# Altium footprint library Connector_PCBEdge.PcbLib: 101 footprints (part 5 of 7)
Each footprint in its own frame and in the unit in brackets; x right, y up, seen from the top. Pads: shape width x height; smd on the part's side, far side on the other; paste and mask are expansions set on the pad; w line width, h text height; cw(c..) or ccw(c..) is an arc to the next point about the centre after c.
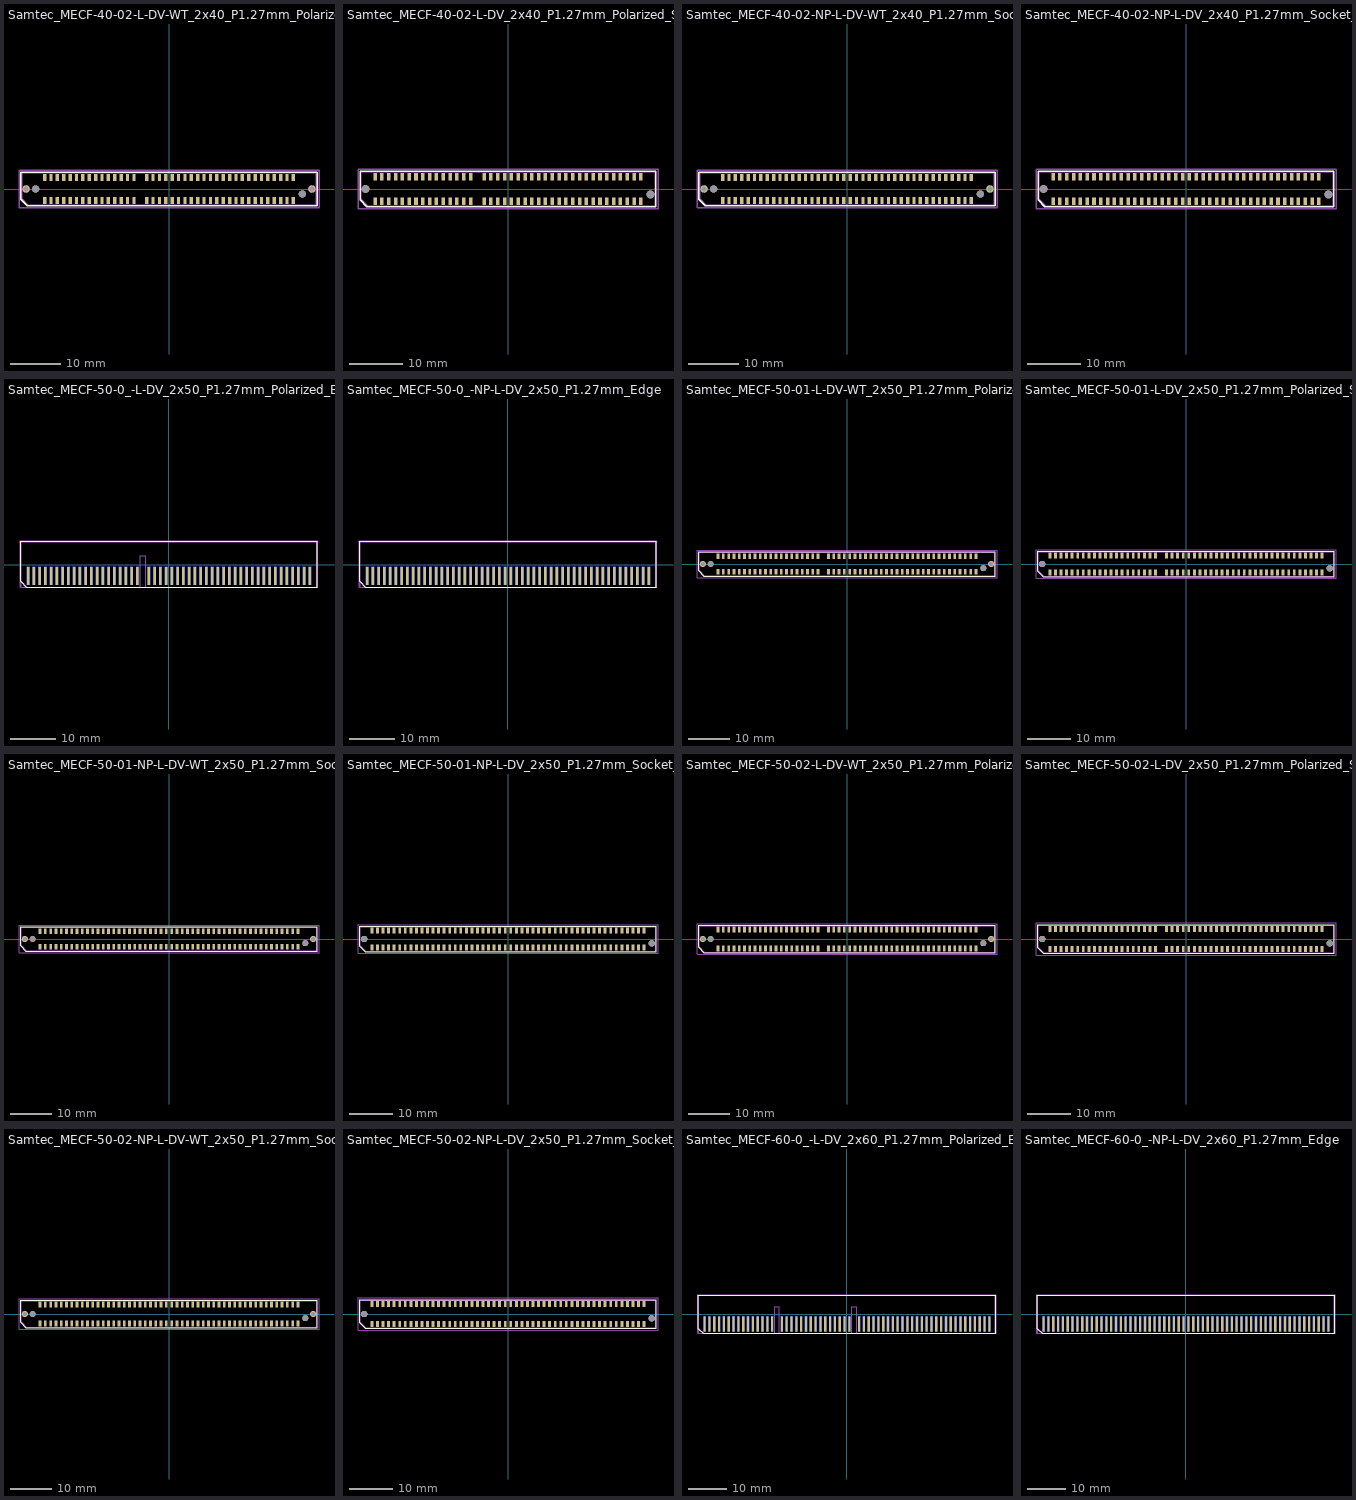
[diagram p4: the footprints below, top view; thin cyan lines are the x and y axes]

## Samtec_MECF-40-02-L-DV-WT_2x40_P1.27mm_Polarized_Socket_Horizontal [mm]
pads (82):
  rect 0.66x1.35 smd: 1(-24.765,-2.3) 2(-24.765,2.3) 3(-23.495,-2.3) 4(-23.495,2.3) 5(-22.225,-2.3) 6(-22.225,2.3) 7(-20.955,-2.3) 8(-20.955,2.3) 9(-19.685,-2.3) 10(-19.685,2.3) 11(-18.415,-2.3) 12(-18.415,2.3) 13(-17.145,-2.3) 14(-17.145,2.3) 15(-15.875,-2.3) 16(-15.875,2.3) 17(-14.605,-2.3) 18(-14.605,2.3) 19(-13.335,-2.3) 20(-13.335,2.3) 21(-12.065,-2.3) 22(-12.065,2.3) 23(-10.795,-2.3) 24(-10.795,2.3) 25(-9.525,-2.3) 26(-9.525,2.3) 27(-8.255,-2.3) 28(-8.255,2.3) 29(-6.985,-2.3) 30(-6.985,2.3) 33(-4.445,-2.3) 34(-4.445,2.3) 35(-3.175,-2.3) 36(-3.175,2.3) 37(-1.905,-2.3) 38(-1.905,2.3) 39(-0.635,-2.3) 40(-0.635,2.3) 41(0.635,-2.3) 42(0.635,2.3) 43(1.905,-2.3) 44(1.905,2.3) 45(3.175,-2.3) 46(3.175,2.3) 47(4.445,-2.3) 48(4.445,2.3) 49(5.715,-2.3) 50(5.715,2.3) 51(6.985,-2.3) 52(6.985,2.3) 53(8.255,-2.3) 54(8.255,2.3) 55(9.525,-2.3) 56(9.525,2.3) 57(10.795,-2.3) 58(10.795,2.3) 59(12.065,-2.3) 60(12.065,2.3) 61(13.335,-2.3) 62(13.335,2.3) 63(14.605,-2.3) 64(14.605,2.3) 65(15.875,-2.3) 66(15.875,2.3) 67(17.145,-2.3) 68(17.145,2.3) 69(18.415,-2.3) 70(18.415,2.3) 71(19.685,-2.3) 72(19.685,2.3) 73(20.955,-2.3) 74(20.955,2.3) 75(22.225,-2.3) 76(22.225,2.3) 77(23.495,-2.3) 78(23.495,2.3) 79(24.765,-2.3) 80(24.765,2.3)
  round 1.5 hole 1: Un1(-28.45,0) Un4(28.45,0)
  round 1.45 hole 1.45: Un2(-26.545,0) Un3(26.545,-1)
F.SilkS:
  lines w0.254: -29.47,-2.04 -28.2,-3.31 29.47,-3.31 29.47,3.31 -29.47,3.31 -29.47,-2.04
Top Assembly:
  lines w0.254: -29.36,-1.93 -28.09,-3.2 29.36,-3.2 29.36,3.2 -29.36,3.2 -29.36,-1.93
  text "'.Designator'" at -4.047,-0.84 h1
Top Courtyard:
  lines w0.254: -29.86,-3.7 29.86,-3.7 29.86,3.7 -29.86,3.7 -29.86,-3.7
Top Designator:
  text ".Designator" at -7.618,-0.508 h1.52

## Samtec_MECF-40-02-L-DV_2x40_P1.27mm_Polarized_Socket_Horizontal [mm]
pads (80):
  rect 0.66x1.35 smd: 1(-24.765,-2.3) 2(-24.765,2.3) 3(-23.495,-2.3) 4(-23.495,2.3) 5(-22.225,-2.3) 6(-22.225,2.3) 7(-20.955,-2.3) 8(-20.955,2.3) 9(-19.685,-2.3) 10(-19.685,2.3) 11(-18.415,-2.3) 12(-18.415,2.3) 13(-17.145,-2.3) 14(-17.145,2.3) 15(-15.875,-2.3) 16(-15.875,2.3) 17(-14.605,-2.3) 18(-14.605,2.3) 19(-13.335,-2.3) 20(-13.335,2.3) 21(-12.065,-2.3) 22(-12.065,2.3) 23(-10.795,-2.3) 24(-10.795,2.3) 25(-9.525,-2.3) 26(-9.525,2.3) 27(-8.255,-2.3) 28(-8.255,2.3) 29(-6.985,-2.3) 30(-6.985,2.3) 33(-4.445,-2.3) 34(-4.445,2.3) 35(-3.175,-2.3) 36(-3.175,2.3) 37(-1.905,-2.3) 38(-1.905,2.3) 39(-0.635,-2.3) 40(-0.635,2.3) 41(0.635,-2.3) 42(0.635,2.3) 43(1.905,-2.3) 44(1.905,2.3) 45(3.175,-2.3) 46(3.175,2.3) 47(4.445,-2.3) 48(4.445,2.3) 49(5.715,-2.3) 50(5.715,2.3) 51(6.985,-2.3) 52(6.985,2.3) 53(8.255,-2.3) 54(8.255,2.3) 55(9.525,-2.3) 56(9.525,2.3) 57(10.795,-2.3) 58(10.795,2.3) 59(12.065,-2.3) 60(12.065,2.3) 61(13.335,-2.3) 62(13.335,2.3) 63(14.605,-2.3) 64(14.605,2.3) 65(15.875,-2.3) 66(15.875,2.3) 67(17.145,-2.3) 68(17.145,2.3) 69(18.415,-2.3) 70(18.415,2.3) 71(19.685,-2.3) 72(19.685,2.3) 73(20.955,-2.3) 74(20.955,2.3) 75(22.225,-2.3) 76(22.225,2.3) 77(23.495,-2.3) 78(23.495,2.3) 79(24.765,-2.3) 80(24.765,2.3)
  round 1.45 hole 1.45: Un1(-26.545,0) Un2(26.545,-1)
F.SilkS:
  lines w0.254: -27.57,-2.04 -26.3,-3.31 27.57,-3.31 27.57,3.31 -27.57,3.31 -27.57,-2.04
Top Assembly:
  lines w0.254: -27.455,-1.93 -26.185,-3.2 27.455,-3.2 27.455,3.2 -27.455,3.2 -27.455,-1.93
  text "'.Designator'" at -4.047,-0.84 h1
Top Courtyard:
  lines w0.254: -27.96,-3.7 27.96,-3.7 27.96,3.7 -27.96,3.7 -27.96,-3.7
Top Designator:
  text ".Designator" at -7.618,-0.508 h1.52

## Samtec_MECF-40-02-NP-L-DV-WT_2x40_P1.27mm_Socket_Horizontal [mm]
pads (84):
  rect 0.66x1.35 smd: 1(-24.765,-2.3) 2(-24.765,2.3) 3(-23.495,-2.3) 4(-23.495,2.3) 5(-22.225,-2.3) 6(-22.225,2.3) 7(-20.955,-2.3) 8(-20.955,2.3) 9(-19.685,-2.3) 10(-19.685,2.3) 11(-18.415,-2.3) 12(-18.415,2.3) 13(-17.145,-2.3) 14(-17.145,2.3) 15(-15.875,-2.3) 16(-15.875,2.3) 17(-14.605,-2.3) 18(-14.605,2.3) 19(-13.335,-2.3) 20(-13.335,2.3) 21(-12.065,-2.3) 22(-12.065,2.3) 23(-10.795,-2.3) 24(-10.795,2.3) 25(-9.525,-2.3) 26(-9.525,2.3) 27(-8.255,-2.3) 28(-8.255,2.3) 29(-6.985,-2.3) 30(-6.985,2.3) 31(-5.715,-2.3) 32(-5.715,2.3) 33(-4.445,-2.3) 34(-4.445,2.3) 35(-3.175,-2.3) 36(-3.175,2.3) 37(-1.905,-2.3) 38(-1.905,2.3) 39(-0.635,-2.3) 40(-0.635,2.3) 41(0.635,-2.3) 42(0.635,2.3) 43(1.905,-2.3) 44(1.905,2.3) 45(3.175,-2.3) 46(3.175,2.3) 47(4.445,-2.3) 48(4.445,2.3) 49(5.715,-2.3) 50(5.715,2.3) 51(6.985,-2.3) 52(6.985,2.3) 53(8.255,-2.3) 54(8.255,2.3) 55(9.525,-2.3) 56(9.525,2.3) 57(10.795,-2.3) 58(10.795,2.3) 59(12.065,-2.3) 60(12.065,2.3) 61(13.335,-2.3) 62(13.335,2.3) 63(14.605,-2.3) 64(14.605,2.3) 65(15.875,-2.3) 66(15.875,2.3) 67(17.145,-2.3) 68(17.145,2.3) 69(18.415,-2.3) 70(18.415,2.3) 71(19.685,-2.3) 72(19.685,2.3) 73(20.955,-2.3) 74(20.955,2.3) 75(22.225,-2.3) 76(22.225,2.3) 77(23.495,-2.3) 78(23.495,2.3) 79(24.765,-2.3) 80(24.765,2.3)
  round 1.5 hole 1: Un1(-28.45,0) Un4(28.45,0)
  round 1.45 hole 1.45: Un2(-26.545,0) Un3(26.545,-1)
F.SilkS:
  lines w0.254: -29.47,-2.04 -28.2,-3.31 29.47,-3.31 29.47,3.31 -29.47,3.31 -29.47,-2.04
Top Assembly:
  lines w0.254: -29.36,-1.93 -28.09,-3.2 29.36,-3.2 29.36,3.2 -29.36,3.2 -29.36,-1.93
  text "'.Designator'" at -4.047,-0.84 h1
Top Courtyard:
  lines w0.254: -29.86,-3.7 29.86,-3.7 29.86,3.7 -29.86,3.7 -29.86,-3.7
Top Designator:
  text ".Designator" at -7.618,-0.508 h1.52

## Samtec_MECF-40-02-NP-L-DV_2x40_P1.27mm_Socket_Horizontal [mm]
pads (82):
  rect 0.66x1.35 smd: 1(-24.765,-2.3) 2(-24.765,2.3) 3(-23.495,-2.3) 4(-23.495,2.3) 5(-22.225,-2.3) 6(-22.225,2.3) 7(-20.955,-2.3) 8(-20.955,2.3) 9(-19.685,-2.3) 10(-19.685,2.3) 11(-18.415,-2.3) 12(-18.415,2.3) 13(-17.145,-2.3) 14(-17.145,2.3) 15(-15.875,-2.3) 16(-15.875,2.3) 17(-14.605,-2.3) 18(-14.605,2.3) 19(-13.335,-2.3) 20(-13.335,2.3) 21(-12.065,-2.3) 22(-12.065,2.3) 23(-10.795,-2.3) 24(-10.795,2.3) 25(-9.525,-2.3) 26(-9.525,2.3) 27(-8.255,-2.3) 28(-8.255,2.3) 29(-6.985,-2.3) 30(-6.985,2.3) 31(-5.715,-2.3) 32(-5.715,2.3) 33(-4.445,-2.3) 34(-4.445,2.3) 35(-3.175,-2.3) 36(-3.175,2.3) 37(-1.905,-2.3) 38(-1.905,2.3) 39(-0.635,-2.3) 40(-0.635,2.3) 41(0.635,-2.3) 42(0.635,2.3) 43(1.905,-2.3) 44(1.905,2.3) 45(3.175,-2.3) 46(3.175,2.3) 47(4.445,-2.3) 48(4.445,2.3) 49(5.715,-2.3) 50(5.715,2.3) 51(6.985,-2.3) 52(6.985,2.3) 53(8.255,-2.3) 54(8.255,2.3) 55(9.525,-2.3) 56(9.525,2.3) 57(10.795,-2.3) 58(10.795,2.3) 59(12.065,-2.3) 60(12.065,2.3) 61(13.335,-2.3) 62(13.335,2.3) 63(14.605,-2.3) 64(14.605,2.3) 65(15.875,-2.3) 66(15.875,2.3) 67(17.145,-2.3) 68(17.145,2.3) 69(18.415,-2.3) 70(18.415,2.3) 71(19.685,-2.3) 72(19.685,2.3) 73(20.955,-2.3) 74(20.955,2.3) 75(22.225,-2.3) 76(22.225,2.3) 77(23.495,-2.3) 78(23.495,2.3) 79(24.765,-2.3) 80(24.765,2.3)
  round 1.45 hole 1.45: Un1(-26.545,0) Un2(26.545,-1)
F.SilkS:
  lines w0.254: -27.57,-2.04 -26.3,-3.31 27.57,-3.31 27.57,3.31 -27.57,3.31 -27.57,-2.04
Top Assembly:
  lines w0.254: -27.455,-1.93 -26.185,-3.2 27.455,-3.2 27.455,3.2 -27.455,3.2 -27.455,-1.93
  text "'.Designator'" at -4.047,-0.84 h1
Top Courtyard:
  lines w0.254: -27.96,-3.7 27.96,-3.7 27.96,3.7 -27.96,3.7 -27.96,-3.7
Top Designator:
  text ".Designator" at -7.618,-0.508 h1.52

## Samtec_MECF-50-0_-L-DV_2x50_P1.27mm_Polarized_Edge [mm]
pads (98):
  rect 0.56x4 smd: 1(-31.105,-2.5) 3(-29.835,-2.5) 5(-28.565,-2.5) 7(-27.295,-2.5) 9(-26.025,-2.5) 11(-24.755,-2.5) 13(-23.485,-2.5) 15(-22.215,-2.5) 17(-20.945,-2.5) 19(-19.675,-2.5) 21(-18.405,-2.5) 23(-17.135,-2.5) 25(-15.865,-2.5) 27(-14.595,-2.5) 29(-13.325,-2.5) 31(-12.055,-2.5) 33(-10.785,-2.5) 35(-9.515,-2.5) 37(-8.245,-2.5) 39(-6.975,-2.5) 43(-4.435,-2.5) 45(-3.165,-2.5) 47(-1.895,-2.5) 49(-0.625,-2.5) 51(0.645,-2.5) 53(1.915,-2.5) 55(3.185,-2.5) 57(4.455,-2.5) 59(5.725,-2.5) 61(6.995,-2.5) 63(8.265,-2.5) 65(9.535,-2.5) 67(10.805,-2.5) 69(12.075,-2.5) 71(13.345,-2.5) 73(14.615,-2.5) 75(15.885,-2.5) 77(17.155,-2.5) 79(18.425,-2.5) 81(19.695,-2.5) 83(20.965,-2.5) 85(22.235,-2.5) 87(23.505,-2.5) 89(24.775,-2.5) 91(26.045,-2.5) 93(27.315,-2.5) 95(28.585,-2.5) 97(29.855,-2.5) 99(31.125,-2.5)
  rect 0.56x4 smd far side: 2(-31.105,-2.5) 4(-29.835,-2.5) 6(-28.565,-2.5) 8(-27.295,-2.5) 10(-26.025,-2.5) 12(-24.755,-2.5) 14(-23.485,-2.5) 16(-22.215,-2.5) 18(-20.945,-2.5) 20(-19.675,-2.5) 22(-18.405,-2.5) 24(-17.135,-2.5) 26(-15.865,-2.5) 28(-14.595,-2.5) 30(-13.325,-2.5) 32(-12.055,-2.5) 34(-10.785,-2.5) 36(-9.515,-2.5) 38(-8.245,-2.5) 40(-6.975,-2.5) 44(-4.435,-2.5) 46(-3.165,-2.5) 48(-1.895,-2.5) 50(-0.625,-2.5) 52(0.645,-2.5) 54(1.915,-2.5) 56(3.185,-2.5) 58(4.455,-2.5) 60(5.725,-2.5) 62(6.995,-2.5) 64(8.265,-2.5) 66(9.535,-2.5) 68(10.805,-2.5) 70(12.075,-2.5) 72(13.345,-2.5) 74(14.615,-2.5) 76(15.885,-2.5) 78(17.155,-2.5) 80(18.425,-2.5) 82(19.695,-2.5) 84(20.965,-2.5) 86(22.235,-2.5) 88(23.505,-2.5) 90(24.775,-2.5) 92(26.045,-2.5) 94(27.315,-2.5) 96(28.585,-2.5) 98(29.855,-2.5) 100(31.125,-2.5)
F.SilkS:
  lines w0.254: -32.73,-3.73 -31.46,-5 32.73,-5 32.73,5.11 -32.73,5.11 -32.73,-3.73
B.SilkS:
  lines w0.254: -32.73,-5 32.73,-5 32.73,5.11 -32.73,5.11 -32.73,-5
Top Assembly:
  lines w0.254: -32.625,-3.73 -31.355,-5 32.625,-5 32.625,5 -32.625,5 -32.625,-3.73
  text "'.Designator'" at -4.047,1.7 h1
Bottom Assembly:
  lines w0.254: -32.625,-5 32.625,-5 32.625,5 -32.625,5 -32.625,-5
Top Courtyard:
  lines w0.254: -32.88,-5 32.88,-5 32.88,5.25 -32.88,5.25 -32.88,-5
Bottom Courtyard:
  lines w0.254: -32.88,-5 32.88,-5 32.88,5.25 -32.88,5.25 -32.88,-5
Top Designator:
  text ".Designator" at -7.618,-0.383 h1.52
Board Shape:
  lines w0.254: -33,5 -32.625,5 -32.625,-5 -6.325,-5 -6.325,2 -5.085,2 -5.085,-5 32.625,-5 32.625,5 33,5

## Samtec_MECF-50-0_-NP-L-DV_2x50_P1.27mm_Edge [mm]
pads (100):
  rect 0.56x4 smd: 1(-31.105,-2.5) 3(-29.835,-2.5) 5(-28.565,-2.5) 7(-27.295,-2.5) 9(-26.025,-2.5) 11(-24.755,-2.5) 13(-23.485,-2.5) 15(-22.215,-2.5) 17(-20.945,-2.5) 19(-19.675,-2.5) 21(-18.405,-2.5) 23(-17.135,-2.5) 25(-15.865,-2.5) 27(-14.595,-2.5) 29(-13.325,-2.5) 31(-12.055,-2.5) 33(-10.785,-2.5) 35(-9.515,-2.5) 37(-8.245,-2.5) 39(-6.975,-2.5) 41(-5.705,-2.5) 43(-4.435,-2.5) 45(-3.165,-2.5) 47(-1.895,-2.5) 49(-0.625,-2.5) 51(0.645,-2.5) 53(1.915,-2.5) 55(3.185,-2.5) 57(4.455,-2.5) 59(5.725,-2.5) 61(6.995,-2.5) 63(8.265,-2.5) 65(9.535,-2.5) 67(10.805,-2.5) 69(12.075,-2.5) 71(13.345,-2.5) 73(14.615,-2.5) 75(15.885,-2.5) 77(17.155,-2.5) 79(18.425,-2.5) 81(19.695,-2.5) 83(20.965,-2.5) 85(22.235,-2.5) 87(23.505,-2.5) 89(24.775,-2.5) 91(26.045,-2.5) 93(27.315,-2.5) 95(28.585,-2.5) 97(29.855,-2.5) 99(31.125,-2.5)
  rect 0.56x4 smd far side: 2(-31.105,-2.5) 4(-29.835,-2.5) 6(-28.565,-2.5) 8(-27.295,-2.5) 10(-26.025,-2.5) 12(-24.755,-2.5) 14(-23.485,-2.5) 16(-22.215,-2.5) 18(-20.945,-2.5) 20(-19.675,-2.5) 22(-18.405,-2.5) 24(-17.135,-2.5) 26(-15.865,-2.5) 28(-14.595,-2.5) 30(-13.325,-2.5) 32(-12.055,-2.5) 34(-10.785,-2.5) 36(-9.515,-2.5) 38(-8.245,-2.5) 40(-6.975,-2.5) 42(-5.705,-2.5) 44(-4.435,-2.5) 46(-3.165,-2.5) 48(-1.895,-2.5) 50(-0.625,-2.5) 52(0.645,-2.5) 54(1.915,-2.5) 56(3.185,-2.5) 58(4.455,-2.5) 60(5.725,-2.5) 62(6.995,-2.5) 64(8.265,-2.5) 66(9.535,-2.5) 68(10.805,-2.5) 70(12.075,-2.5) 72(13.345,-2.5) 74(14.615,-2.5) 76(15.885,-2.5) 78(17.155,-2.5) 80(18.425,-2.5) 82(19.695,-2.5) 84(20.965,-2.5) 86(22.235,-2.5) 88(23.505,-2.5) 90(24.775,-2.5) 92(26.045,-2.5) 94(27.315,-2.5) 96(28.585,-2.5) 98(29.855,-2.5) 100(31.125,-2.5)
F.SilkS:
  lines w0.254: -32.73,-3.73 -31.46,-5 32.73,-5 32.73,5.11 -32.73,5.11 -32.73,-3.73
B.SilkS:
  lines w0.254: -32.73,-5 32.73,-5 32.73,5.11 -32.73,5.11 -32.73,-5
Top Assembly:
  lines w0.254: -32.625,-3.73 -31.355,-5 32.625,-5 32.625,5 -32.625,5 -32.625,-3.73
  text "'.Designator'" at -4.047,1.7 h1
Bottom Assembly:
  lines w0.254: -32.625,-5 32.625,-5 32.625,5 -32.625,5 -32.625,-5
Top Courtyard:
  lines w0.254: -32.88,-5 32.88,-5 32.88,5.25 -32.88,5.25 -32.88,-5
Bottom Courtyard:
  lines w0.254: -32.88,-5 32.88,-5 32.88,5.25 -32.88,5.25 -32.88,-5
Top Designator:
  text ".Designator" at -7.618,-0.383 h1.52
Board Shape:
  lines w0.254: -33,5 -32.625,5 -32.625,-5 32.625,-5 32.625,5 33,5

## Samtec_MECF-50-01-L-DV-WT_2x50_P1.27mm_Polarized_Socket_Horizontal [mm]
pads (102):
  rect 0.66x1.35 smd: 1(-31.115,-1.905) 2(-31.115,1.905) 3(-29.845,-1.905) 4(-29.845,1.905) 5(-28.575,-1.905) 6(-28.575,1.905) 7(-27.305,-1.905) 8(-27.305,1.905) 9(-26.035,-1.905) 10(-26.035,1.905) 11(-24.765,-1.905) 12(-24.765,1.905) 13(-23.495,-1.905) 14(-23.495,1.905) 15(-22.225,-1.905) 16(-22.225,1.905) 17(-20.955,-1.905) 18(-20.955,1.905) 19(-19.685,-1.905) 20(-19.685,1.905) 21(-18.415,-1.905) 22(-18.415,1.905) 23(-17.145,-1.905) 24(-17.145,1.905) 25(-15.875,-1.905) 26(-15.875,1.905) 27(-14.605,-1.905) 28(-14.605,1.905) 29(-13.335,-1.905) 30(-13.335,1.905) 31(-12.065,-1.905) 32(-12.065,1.905) 33(-10.795,-1.905) 34(-10.795,1.905) 35(-9.525,-1.905) 36(-9.525,1.905) 37(-8.255,-1.905) 38(-8.255,1.905) 39(-6.985,-1.905) 40(-6.985,1.905) 43(-4.445,-1.905) 44(-4.445,1.905) 45(-3.175,-1.905) 46(-3.175,1.905) 47(-1.905,-1.905) 48(-1.905,1.905) 49(-0.635,-1.905) 50(-0.635,1.905) 51(0.635,-1.905) 52(0.635,1.905) 53(1.905,-1.905) 54(1.905,1.905) 55(3.175,-1.905) 56(3.175,1.905) 57(4.445,-1.905) 58(4.445,1.905) 59(5.715,-1.905) 60(5.715,1.905) 61(6.985,-1.905) 62(6.985,1.905) 63(8.255,-1.905) 64(8.255,1.905) 65(9.525,-1.905) 66(9.525,1.905) 67(10.795,-1.905) 68(10.795,1.905) 69(12.065,-1.905) 70(12.065,1.905) 71(13.335,-1.905) 72(13.335,1.905) 73(14.605,-1.905) 74(14.605,1.905) 75(15.875,-1.905) 76(15.875,1.905) 77(17.145,-1.905) 78(17.145,1.905) 79(18.415,-1.905) 80(18.415,1.905) 81(19.685,-1.905) 82(19.685,1.905) 83(20.955,-1.905) 84(20.955,1.905) 85(22.225,-1.905) 86(22.225,1.905) 87(23.495,-1.905) 88(23.495,1.905) 89(24.765,-1.905) 90(24.765,1.905) 91(26.035,-1.905) 92(26.035,1.905) 93(27.305,-1.905) 94(27.305,1.905) 95(28.575,-1.905) 96(28.575,1.905) 97(29.845,-1.905) 98(29.845,1.905) 99(31.115,-1.905) 100(31.115,1.905)
  round 1.5 hole 1: Un1(-34.8,0) Un4(34.8,0)
  round 1.45 hole 1.45: Un2(-32.895,0) Un3(32.895,-1)
F.SilkS:
  lines w0.254: -35.82,-1.65 -34.55,-2.92 35.82,-2.92 35.82,2.92 -35.82,2.92 -35.82,-1.65
Top Assembly:
  lines w0.254: -35.71,-1.535 -34.44,-2.805 35.71,-2.805 35.71,2.805 -35.71,2.805 -35.71,-1.535
  text "'.Designator'" at -4.047,-0.84 h1
Top Courtyard:
  lines w0.254: -36.21,-3.31 36.21,-3.31 36.21,3.31 -36.21,3.31 -36.21,-3.31
Top Designator:
  text ".Designator" at -7.618,-0.508 h1.52

## Samtec_MECF-50-01-L-DV_2x50_P1.27mm_Polarized_Socket_Horizontal [mm]
pads (100):
  rect 0.66x1.35 smd: 1(-31.115,-1.905) 2(-31.115,1.905) 3(-29.845,-1.905) 4(-29.845,1.905) 5(-28.575,-1.905) 6(-28.575,1.905) 7(-27.305,-1.905) 8(-27.305,1.905) 9(-26.035,-1.905) 10(-26.035,1.905) 11(-24.765,-1.905) 12(-24.765,1.905) 13(-23.495,-1.905) 14(-23.495,1.905) 15(-22.225,-1.905) 16(-22.225,1.905) 17(-20.955,-1.905) 18(-20.955,1.905) 19(-19.685,-1.905) 20(-19.685,1.905) 21(-18.415,-1.905) 22(-18.415,1.905) 23(-17.145,-1.905) 24(-17.145,1.905) 25(-15.875,-1.905) 26(-15.875,1.905) 27(-14.605,-1.905) 28(-14.605,1.905) 29(-13.335,-1.905) 30(-13.335,1.905) 31(-12.065,-1.905) 32(-12.065,1.905) 33(-10.795,-1.905) 34(-10.795,1.905) 35(-9.525,-1.905) 36(-9.525,1.905) 37(-8.255,-1.905) 38(-8.255,1.905) 39(-6.985,-1.905) 40(-6.985,1.905) 43(-4.445,-1.905) 44(-4.445,1.905) 45(-3.175,-1.905) 46(-3.175,1.905) 47(-1.905,-1.905) 48(-1.905,1.905) 49(-0.635,-1.905) 50(-0.635,1.905) 51(0.635,-1.905) 52(0.635,1.905) 53(1.905,-1.905) 54(1.905,1.905) 55(3.175,-1.905) 56(3.175,1.905) 57(4.445,-1.905) 58(4.445,1.905) 59(5.715,-1.905) 60(5.715,1.905) 61(6.985,-1.905) 62(6.985,1.905) 63(8.255,-1.905) 64(8.255,1.905) 65(9.525,-1.905) 66(9.525,1.905) 67(10.795,-1.905) 68(10.795,1.905) 69(12.065,-1.905) 70(12.065,1.905) 71(13.335,-1.905) 72(13.335,1.905) 73(14.605,-1.905) 74(14.605,1.905) 75(15.875,-1.905) 76(15.875,1.905) 77(17.145,-1.905) 78(17.145,1.905) 79(18.415,-1.905) 80(18.415,1.905) 81(19.685,-1.905) 82(19.685,1.905) 83(20.955,-1.905) 84(20.955,1.905) 85(22.225,-1.905) 86(22.225,1.905) 87(23.495,-1.905) 88(23.495,1.905) 89(24.765,-1.905) 90(24.765,1.905) 91(26.035,-1.905) 92(26.035,1.905) 93(27.305,-1.905) 94(27.305,1.905) 95(28.575,-1.905) 96(28.575,1.905) 97(29.845,-1.905) 98(29.845,1.905) 99(31.115,-1.905) 100(31.115,1.905)
  round 1.45 hole 1.45: Un1(-32.895,0) Un2(32.895,-1)
F.SilkS:
  lines w0.254: -33.91,-1.65 -32.64,-2.92 33.91,-2.92 33.91,2.92 -33.91,2.92 -33.91,-1.65
Top Assembly:
  lines w0.254: -33.805,-1.535 -32.535,-2.805 33.805,-2.805 33.805,2.805 -33.805,2.805 -33.805,-1.535
  text "'.Designator'" at -4.047,-0.84 h1
Top Courtyard:
  lines w0.254: -34.31,-3.31 34.31,-3.31 34.31,3.31 -34.31,3.31 -34.31,-3.31
Top Designator:
  text ".Designator" at -7.618,-0.508 h1.52

## Samtec_MECF-50-01-NP-L-DV-WT_2x50_P1.27mm_Socket_Horizontal [mm]
pads (104):
  rect 0.66x1.35 smd: 1(-31.115,-1.905) 2(-31.115,1.905) 3(-29.845,-1.905) 4(-29.845,1.905) 5(-28.575,-1.905) 6(-28.575,1.905) 7(-27.305,-1.905) 8(-27.305,1.905) 9(-26.035,-1.905) 10(-26.035,1.905) 11(-24.765,-1.905) 12(-24.765,1.905) 13(-23.495,-1.905) 14(-23.495,1.905) 15(-22.225,-1.905) 16(-22.225,1.905) 17(-20.955,-1.905) 18(-20.955,1.905) 19(-19.685,-1.905) 20(-19.685,1.905) 21(-18.415,-1.905) 22(-18.415,1.905) 23(-17.145,-1.905) 24(-17.145,1.905) 25(-15.875,-1.905) 26(-15.875,1.905) 27(-14.605,-1.905) 28(-14.605,1.905) 29(-13.335,-1.905) 30(-13.335,1.905) 31(-12.065,-1.905) 32(-12.065,1.905) 33(-10.795,-1.905) 34(-10.795,1.905) 35(-9.525,-1.905) 36(-9.525,1.905) 37(-8.255,-1.905) 38(-8.255,1.905) 39(-6.985,-1.905) 40(-6.985,1.905) 41(-5.715,-1.905) 42(-5.715,1.905) 43(-4.445,-1.905) 44(-4.445,1.905) 45(-3.175,-1.905) 46(-3.175,1.905) 47(-1.905,-1.905) 48(-1.905,1.905) 49(-0.635,-1.905) 50(-0.635,1.905) 51(0.635,-1.905) 52(0.635,1.905) 53(1.905,-1.905) 54(1.905,1.905) 55(3.175,-1.905) 56(3.175,1.905) 57(4.445,-1.905) 58(4.445,1.905) 59(5.715,-1.905) 60(5.715,1.905) 61(6.985,-1.905) 62(6.985,1.905) 63(8.255,-1.905) 64(8.255,1.905) 65(9.525,-1.905) 66(9.525,1.905) 67(10.795,-1.905) 68(10.795,1.905) 69(12.065,-1.905) 70(12.065,1.905) 71(13.335,-1.905) 72(13.335,1.905) 73(14.605,-1.905) 74(14.605,1.905) 75(15.875,-1.905) 76(15.875,1.905) 77(17.145,-1.905) 78(17.145,1.905) 79(18.415,-1.905) 80(18.415,1.905) 81(19.685,-1.905) 82(19.685,1.905) 83(20.955,-1.905) 84(20.955,1.905) 85(22.225,-1.905) 86(22.225,1.905) 87(23.495,-1.905) 88(23.495,1.905) 89(24.765,-1.905) 90(24.765,1.905) 91(26.035,-1.905) 92(26.035,1.905) 93(27.305,-1.905) 94(27.305,1.905) 95(28.575,-1.905) 96(28.575,1.905) 97(29.845,-1.905) 98(29.845,1.905) 99(31.115,-1.905) 100(31.115,1.905)
  round 1.5 hole 1: Un1(-34.8,0) Un4(34.8,0)
  round 1.45 hole 1.45: Un2(-32.895,0) Un3(32.895,-1)
F.SilkS:
  lines w0.254: -35.82,-1.65 -34.55,-2.92 35.82,-2.92 35.82,2.92 -35.82,2.92 -35.82,-1.65
Top Assembly:
  lines w0.254: -35.71,-1.535 -34.44,-2.805 35.71,-2.805 35.71,2.805 -35.71,2.805 -35.71,-1.535
  text "'.Designator'" at -4.047,-0.84 h1
Top Courtyard:
  lines w0.254: -36.21,-3.31 36.21,-3.31 36.21,3.31 -36.21,3.31 -36.21,-3.31
Top Designator:
  text ".Designator" at -7.618,-0.508 h1.52

## Samtec_MECF-50-01-NP-L-DV_2x50_P1.27mm_Socket_Horizontal [mm]
pads (102):
  rect 0.66x1.35 smd: 1(-31.115,-1.905) 2(-31.115,1.905) 3(-29.845,-1.905) 4(-29.845,1.905) 5(-28.575,-1.905) 6(-28.575,1.905) 7(-27.305,-1.905) 8(-27.305,1.905) 9(-26.035,-1.905) 10(-26.035,1.905) 11(-24.765,-1.905) 12(-24.765,1.905) 13(-23.495,-1.905) 14(-23.495,1.905) 15(-22.225,-1.905) 16(-22.225,1.905) 17(-20.955,-1.905) 18(-20.955,1.905) 19(-19.685,-1.905) 20(-19.685,1.905) 21(-18.415,-1.905) 22(-18.415,1.905) 23(-17.145,-1.905) 24(-17.145,1.905) 25(-15.875,-1.905) 26(-15.875,1.905) 27(-14.605,-1.905) 28(-14.605,1.905) 29(-13.335,-1.905) 30(-13.335,1.905) 31(-12.065,-1.905) 32(-12.065,1.905) 33(-10.795,-1.905) 34(-10.795,1.905) 35(-9.525,-1.905) 36(-9.525,1.905) 37(-8.255,-1.905) 38(-8.255,1.905) 39(-6.985,-1.905) 40(-6.985,1.905) 41(-5.715,-1.905) 42(-5.715,1.905) 43(-4.445,-1.905) 44(-4.445,1.905) 45(-3.175,-1.905) 46(-3.175,1.905) 47(-1.905,-1.905) 48(-1.905,1.905) 49(-0.635,-1.905) 50(-0.635,1.905) 51(0.635,-1.905) 52(0.635,1.905) 53(1.905,-1.905) 54(1.905,1.905) 55(3.175,-1.905) 56(3.175,1.905) 57(4.445,-1.905) 58(4.445,1.905) 59(5.715,-1.905) 60(5.715,1.905) 61(6.985,-1.905) 62(6.985,1.905) 63(8.255,-1.905) 64(8.255,1.905) 65(9.525,-1.905) 66(9.525,1.905) 67(10.795,-1.905) 68(10.795,1.905) 69(12.065,-1.905) 70(12.065,1.905) 71(13.335,-1.905) 72(13.335,1.905) 73(14.605,-1.905) 74(14.605,1.905) 75(15.875,-1.905) 76(15.875,1.905) 77(17.145,-1.905) 78(17.145,1.905) 79(18.415,-1.905) 80(18.415,1.905) 81(19.685,-1.905) 82(19.685,1.905) 83(20.955,-1.905) 84(20.955,1.905) 85(22.225,-1.905) 86(22.225,1.905) 87(23.495,-1.905) 88(23.495,1.905) 89(24.765,-1.905) 90(24.765,1.905) 91(26.035,-1.905) 92(26.035,1.905) 93(27.305,-1.905) 94(27.305,1.905) 95(28.575,-1.905) 96(28.575,1.905) 97(29.845,-1.905) 98(29.845,1.905) 99(31.115,-1.905) 100(31.115,1.905)
  round 1.45 hole 1.45: Un1(-32.895,0) Un2(32.895,-1)
F.SilkS:
  lines w0.254: -33.91,-1.65 -32.64,-2.92 33.91,-2.92 33.91,2.92 -33.91,2.92 -33.91,-1.65
Top Assembly:
  lines w0.254: -33.805,-1.535 -32.535,-2.805 33.805,-2.805 33.805,2.805 -33.805,2.805 -33.805,-1.535
  text "'.Designator'" at -4.047,-0.84 h1
Top Courtyard:
  lines w0.254: -34.31,-3.31 34.31,-3.31 34.31,3.31 -34.31,3.31 -34.31,-3.31
Top Designator:
  text ".Designator" at -7.618,-0.508 h1.52

## Samtec_MECF-50-02-L-DV-WT_2x50_P1.27mm_Polarized_Socket_Horizontal [mm]
pads (102):
  rect 0.66x1.35 smd: 1(-31.115,-2.3) 2(-31.115,2.3) 3(-29.845,-2.3) 4(-29.845,2.3) 5(-28.575,-2.3) 6(-28.575,2.3) 7(-27.305,-2.3) 8(-27.305,2.3) 9(-26.035,-2.3) 10(-26.035,2.3) 11(-24.765,-2.3) 12(-24.765,2.3) 13(-23.495,-2.3) 14(-23.495,2.3) 15(-22.225,-2.3) 16(-22.225,2.3) 17(-20.955,-2.3) 18(-20.955,2.3) 19(-19.685,-2.3) 20(-19.685,2.3) 21(-18.415,-2.3) 22(-18.415,2.3) 23(-17.145,-2.3) 24(-17.145,2.3) 25(-15.875,-2.3) 26(-15.875,2.3) 27(-14.605,-2.3) 28(-14.605,2.3) 29(-13.335,-2.3) 30(-13.335,2.3) 31(-12.065,-2.3) 32(-12.065,2.3) 33(-10.795,-2.3) 34(-10.795,2.3) 35(-9.525,-2.3) 36(-9.525,2.3) 37(-8.255,-2.3) 38(-8.255,2.3) 39(-6.985,-2.3) 40(-6.985,2.3) 43(-4.445,-2.3) 44(-4.445,2.3) 45(-3.175,-2.3) 46(-3.175,2.3) 47(-1.905,-2.3) 48(-1.905,2.3) 49(-0.635,-2.3) 50(-0.635,2.3) 51(0.635,-2.3) 52(0.635,2.3) 53(1.905,-2.3) 54(1.905,2.3) 55(3.175,-2.3) 56(3.175,2.3) 57(4.445,-2.3) 58(4.445,2.3) 59(5.715,-2.3) 60(5.715,2.3) 61(6.985,-2.3) 62(6.985,2.3) 63(8.255,-2.3) 64(8.255,2.3) 65(9.525,-2.3) 66(9.525,2.3) 67(10.795,-2.3) 68(10.795,2.3) 69(12.065,-2.3) 70(12.065,2.3) 71(13.335,-2.3) 72(13.335,2.3) 73(14.605,-2.3) 74(14.605,2.3) 75(15.875,-2.3) 76(15.875,2.3) 77(17.145,-2.3) 78(17.145,2.3) 79(18.415,-2.3) 80(18.415,2.3) 81(19.685,-2.3) 82(19.685,2.3) 83(20.955,-2.3) 84(20.955,2.3) 85(22.225,-2.3) 86(22.225,2.3) 87(23.495,-2.3) 88(23.495,2.3) 89(24.765,-2.3) 90(24.765,2.3) 91(26.035,-2.3) 92(26.035,2.3) 93(27.305,-2.3) 94(27.305,2.3) 95(28.575,-2.3) 96(28.575,2.3) 97(29.845,-2.3) 98(29.845,2.3) 99(31.115,-2.3) 100(31.115,2.3)
  round 1.5 hole 1: Un1(-34.8,0) Un4(34.8,0)
  round 1.45 hole 1.45: Un2(-32.895,0) Un3(32.895,-1)
F.SilkS:
  lines w0.254: -35.82,-2.04 -34.55,-3.31 35.82,-3.31 35.82,3.31 -35.82,3.31 -35.82,-2.04
Top Assembly:
  lines w0.254: -35.71,-1.93 -34.44,-3.2 35.71,-3.2 35.71,3.2 -35.71,3.2 -35.71,-1.93
  text "'.Designator'" at -4.047,-0.84 h1
Top Courtyard:
  lines w0.254: -36.21,-3.7 36.21,-3.7 36.21,3.7 -36.21,3.7 -36.21,-3.7
Top Designator:
  text ".Designator" at -7.618,-0.508 h1.52

## Samtec_MECF-50-02-L-DV_2x50_P1.27mm_Polarized_Socket_Horizontal [mm]
pads (100):
  rect 0.66x1.35 smd: 1(-31.115,-2.3) 2(-31.115,2.3) 3(-29.845,-2.3) 4(-29.845,2.3) 5(-28.575,-2.3) 6(-28.575,2.3) 7(-27.305,-2.3) 8(-27.305,2.3) 9(-26.035,-2.3) 10(-26.035,2.3) 11(-24.765,-2.3) 12(-24.765,2.3) 13(-23.495,-2.3) 14(-23.495,2.3) 15(-22.225,-2.3) 16(-22.225,2.3) 17(-20.955,-2.3) 18(-20.955,2.3) 19(-19.685,-2.3) 20(-19.685,2.3) 21(-18.415,-2.3) 22(-18.415,2.3) 23(-17.145,-2.3) 24(-17.145,2.3) 25(-15.875,-2.3) 26(-15.875,2.3) 27(-14.605,-2.3) 28(-14.605,2.3) 29(-13.335,-2.3) 30(-13.335,2.3) 31(-12.065,-2.3) 32(-12.065,2.3) 33(-10.795,-2.3) 34(-10.795,2.3) 35(-9.525,-2.3) 36(-9.525,2.3) 37(-8.255,-2.3) 38(-8.255,2.3) 39(-6.985,-2.3) 40(-6.985,2.3) 43(-4.445,-2.3) 44(-4.445,2.3) 45(-3.175,-2.3) 46(-3.175,2.3) 47(-1.905,-2.3) 48(-1.905,2.3) 49(-0.635,-2.3) 50(-0.635,2.3) 51(0.635,-2.3) 52(0.635,2.3) 53(1.905,-2.3) 54(1.905,2.3) 55(3.175,-2.3) 56(3.175,2.3) 57(4.445,-2.3) 58(4.445,2.3) 59(5.715,-2.3) 60(5.715,2.3) 61(6.985,-2.3) 62(6.985,2.3) 63(8.255,-2.3) 64(8.255,2.3) 65(9.525,-2.3) 66(9.525,2.3) 67(10.795,-2.3) 68(10.795,2.3) 69(12.065,-2.3) 70(12.065,2.3) 71(13.335,-2.3) 72(13.335,2.3) 73(14.605,-2.3) 74(14.605,2.3) 75(15.875,-2.3) 76(15.875,2.3) 77(17.145,-2.3) 78(17.145,2.3) 79(18.415,-2.3) 80(18.415,2.3) 81(19.685,-2.3) 82(19.685,2.3) 83(20.955,-2.3) 84(20.955,2.3) 85(22.225,-2.3) 86(22.225,2.3) 87(23.495,-2.3) 88(23.495,2.3) 89(24.765,-2.3) 90(24.765,2.3) 91(26.035,-2.3) 92(26.035,2.3) 93(27.305,-2.3) 94(27.305,2.3) 95(28.575,-2.3) 96(28.575,2.3) 97(29.845,-2.3) 98(29.845,2.3) 99(31.115,-2.3) 100(31.115,2.3)
  round 1.45 hole 1.45: Un1(-32.895,0) Un2(32.895,-1)
F.SilkS:
  lines w0.254: -33.91,-2.04 -32.64,-3.31 33.91,-3.31 33.91,3.31 -33.91,3.31 -33.91,-2.04
Top Assembly:
  lines w0.254: -33.805,-1.93 -32.535,-3.2 33.805,-3.2 33.805,3.2 -33.805,3.2 -33.805,-1.93
  text "'.Designator'" at -4.047,-0.84 h1
Top Courtyard:
  lines w0.254: -34.31,-3.7 34.31,-3.7 34.31,3.7 -34.31,3.7 -34.31,-3.7
Top Designator:
  text ".Designator" at -7.618,-0.508 h1.52

## Samtec_MECF-50-02-NP-L-DV-WT_2x50_P1.27mm_Socket_Horizontal [mm]
pads (104):
  rect 0.66x1.35 smd: 1(-31.115,-2.3) 2(-31.115,2.3) 3(-29.845,-2.3) 4(-29.845,2.3) 5(-28.575,-2.3) 6(-28.575,2.3) 7(-27.305,-2.3) 8(-27.305,2.3) 9(-26.035,-2.3) 10(-26.035,2.3) 11(-24.765,-2.3) 12(-24.765,2.3) 13(-23.495,-2.3) 14(-23.495,2.3) 15(-22.225,-2.3) 16(-22.225,2.3) 17(-20.955,-2.3) 18(-20.955,2.3) 19(-19.685,-2.3) 20(-19.685,2.3) 21(-18.415,-2.3) 22(-18.415,2.3) 23(-17.145,-2.3) 24(-17.145,2.3) 25(-15.875,-2.3) 26(-15.875,2.3) 27(-14.605,-2.3) 28(-14.605,2.3) 29(-13.335,-2.3) 30(-13.335,2.3) 31(-12.065,-2.3) 32(-12.065,2.3) 33(-10.795,-2.3) 34(-10.795,2.3) 35(-9.525,-2.3) 36(-9.525,2.3) 37(-8.255,-2.3) 38(-8.255,2.3) 39(-6.985,-2.3) 40(-6.985,2.3) 41(-5.715,-2.3) 42(-5.715,2.3) 43(-4.445,-2.3) 44(-4.445,2.3) 45(-3.175,-2.3) 46(-3.175,2.3) 47(-1.905,-2.3) 48(-1.905,2.3) 49(-0.635,-2.3) 50(-0.635,2.3) 51(0.635,-2.3) 52(0.635,2.3) 53(1.905,-2.3) 54(1.905,2.3) 55(3.175,-2.3) 56(3.175,2.3) 57(4.445,-2.3) 58(4.445,2.3) 59(5.715,-2.3) 60(5.715,2.3) 61(6.985,-2.3) 62(6.985,2.3) 63(8.255,-2.3) 64(8.255,2.3) 65(9.525,-2.3) 66(9.525,2.3) 67(10.795,-2.3) 68(10.795,2.3) 69(12.065,-2.3) 70(12.065,2.3) 71(13.335,-2.3) 72(13.335,2.3) 73(14.605,-2.3) 74(14.605,2.3) 75(15.875,-2.3) 76(15.875,2.3) 77(17.145,-2.3) 78(17.145,2.3) 79(18.415,-2.3) 80(18.415,2.3) 81(19.685,-2.3) 82(19.685,2.3) 83(20.955,-2.3) 84(20.955,2.3) 85(22.225,-2.3) 86(22.225,2.3) 87(23.495,-2.3) 88(23.495,2.3) 89(24.765,-2.3) 90(24.765,2.3) 91(26.035,-2.3) 92(26.035,2.3) 93(27.305,-2.3) 94(27.305,2.3) 95(28.575,-2.3) 96(28.575,2.3) 97(29.845,-2.3) 98(29.845,2.3) 99(31.115,-2.3) 100(31.115,2.3)
  round 1.5 hole 1: Un1(-34.8,0) Un4(34.8,0)
  round 1.45 hole 1.45: Un2(-32.895,0) Un3(32.895,-1)
F.SilkS:
  lines w0.254: -35.82,-2.04 -34.55,-3.31 35.82,-3.31 35.82,3.31 -35.82,3.31 -35.82,-2.04
Top Assembly:
  lines w0.254: -35.71,-1.93 -34.44,-3.2 35.71,-3.2 35.71,3.2 -35.71,3.2 -35.71,-1.93
  text "'.Designator'" at -4.047,-0.84 h1
Top Courtyard:
  lines w0.254: -36.21,-3.7 36.21,-3.7 36.21,3.7 -36.21,3.7 -36.21,-3.7
Top Designator:
  text ".Designator" at -7.618,-0.508 h1.52

## Samtec_MECF-50-02-NP-L-DV_2x50_P1.27mm_Socket_Horizontal [mm]
pads (102):
  rect 0.66x1.35 smd: 1(-31.115,-2.3) 2(-31.115,2.3) 3(-29.845,-2.3) 4(-29.845,2.3) 5(-28.575,-2.3) 6(-28.575,2.3) 7(-27.305,-2.3) 8(-27.305,2.3) 9(-26.035,-2.3) 10(-26.035,2.3) 11(-24.765,-2.3) 12(-24.765,2.3) 13(-23.495,-2.3) 14(-23.495,2.3) 15(-22.225,-2.3) 16(-22.225,2.3) 17(-20.955,-2.3) 18(-20.955,2.3) 19(-19.685,-2.3) 20(-19.685,2.3) 21(-18.415,-2.3) 22(-18.415,2.3) 23(-17.145,-2.3) 24(-17.145,2.3) 25(-15.875,-2.3) 26(-15.875,2.3) 27(-14.605,-2.3) 28(-14.605,2.3) 29(-13.335,-2.3) 30(-13.335,2.3) 31(-12.065,-2.3) 32(-12.065,2.3) 33(-10.795,-2.3) 34(-10.795,2.3) 35(-9.525,-2.3) 36(-9.525,2.3) 37(-8.255,-2.3) 38(-8.255,2.3) 39(-6.985,-2.3) 40(-6.985,2.3) 41(-5.715,-2.3) 42(-5.715,2.3) 43(-4.445,-2.3) 44(-4.445,2.3) 45(-3.175,-2.3) 46(-3.175,2.3) 47(-1.905,-2.3) 48(-1.905,2.3) 49(-0.635,-2.3) 50(-0.635,2.3) 51(0.635,-2.3) 52(0.635,2.3) 53(1.905,-2.3) 54(1.905,2.3) 55(3.175,-2.3) 56(3.175,2.3) 57(4.445,-2.3) 58(4.445,2.3) 59(5.715,-2.3) 60(5.715,2.3) 61(6.985,-2.3) 62(6.985,2.3) 63(8.255,-2.3) 64(8.255,2.3) 65(9.525,-2.3) 66(9.525,2.3) 67(10.795,-2.3) 68(10.795,2.3) 69(12.065,-2.3) 70(12.065,2.3) 71(13.335,-2.3) 72(13.335,2.3) 73(14.605,-2.3) 74(14.605,2.3) 75(15.875,-2.3) 76(15.875,2.3) 77(17.145,-2.3) 78(17.145,2.3) 79(18.415,-2.3) 80(18.415,2.3) 81(19.685,-2.3) 82(19.685,2.3) 83(20.955,-2.3) 84(20.955,2.3) 85(22.225,-2.3) 86(22.225,2.3) 87(23.495,-2.3) 88(23.495,2.3) 89(24.765,-2.3) 90(24.765,2.3) 91(26.035,-2.3) 92(26.035,2.3) 93(27.305,-2.3) 94(27.305,2.3) 95(28.575,-2.3) 96(28.575,2.3) 97(29.845,-2.3) 98(29.845,2.3) 99(31.115,-2.3) 100(31.115,2.3)
  round 1.45 hole 1.45: Un1(-32.895,0) Un2(32.895,-1)
F.SilkS:
  lines w0.254: -33.91,-2.04 -32.64,-3.31 33.91,-3.31 33.91,3.31 -33.91,3.31 -33.91,-2.04
Top Assembly:
  lines w0.254: -33.805,-1.93 -32.535,-3.2 33.805,-3.2 33.805,3.2 -33.805,3.2 -33.805,-1.93
  text "'.Designator'" at -4.047,-0.84 h1
Top Courtyard:
  lines w0.254: -34.31,-3.7 34.31,-3.7 34.31,3.7 -34.31,3.7 -34.31,-3.7
Top Designator:
  text ".Designator" at -7.618,-0.508 h1.52

## Samtec_MECF-60-0_-L-DV_2x60_P1.27mm_Polarized_Edge [mm]
pads (116):
  rect 0.56x4 smd: 1(-37.455,-2.5) 3(-36.185,-2.5) 5(-34.915,-2.5) 7(-33.645,-2.5) 9(-32.375,-2.5) 11(-31.105,-2.5) 13(-29.835,-2.5) 15(-28.565,-2.5) 17(-27.295,-2.5) 19(-26.025,-2.5) 21(-24.755,-2.5) 23(-23.485,-2.5) 25(-22.215,-2.5) 27(-20.945,-2.5) 29(-19.675,-2.5) 33(-17.135,-2.5) 35(-15.865,-2.5) 37(-14.595,-2.5) 39(-13.325,-2.5) 41(-12.055,-2.5) 43(-10.785,-2.5) 45(-9.515,-2.5) 47(-8.245,-2.5) 49(-6.975,-2.5) 51(-5.705,-2.5) 53(-4.435,-2.5) 55(-3.165,-2.5) 57(-1.895,-2.5) 59(-0.625,-2.5) 61(0.645,-2.5) 65(3.185,-2.5) 67(4.455,-2.5) 69(5.725,-2.5) 71(6.995,-2.5) 73(8.265,-2.5) 75(9.535,-2.5) 77(10.805,-2.5) 79(12.075,-2.5) 81(13.345,-2.5) 83(14.615,-2.5) 85(15.885,-2.5) 87(17.155,-2.5) 89(18.425,-2.5) 91(19.695,-2.5) 93(20.965,-2.5) 95(22.235,-2.5) 97(23.505,-2.5) 99(24.775,-2.5) 101(26.045,-2.5) 103(27.315,-2.5) 105(28.585,-2.5) 107(29.855,-2.5) 109(31.125,-2.5) 111(32.395,-2.5) 113(33.665,-2.5) 115(34.935,-2.5) 117(36.205,-2.5) 119(37.475,-2.5)
  rect 0.56x4 smd far side: 2(-37.455,-2.5) 4(-36.185,-2.5) 6(-34.915,-2.5) 8(-33.645,-2.5) 10(-32.375,-2.5) 12(-31.105,-2.5) 14(-29.835,-2.5) 16(-28.565,-2.5) 18(-27.295,-2.5) 20(-26.025,-2.5) 22(-24.755,-2.5) 24(-23.485,-2.5) 26(-22.215,-2.5) 28(-20.945,-2.5) 30(-19.675,-2.5) 34(-17.135,-2.5) 36(-15.865,-2.5) 38(-14.595,-2.5) 40(-13.325,-2.5) 42(-12.055,-2.5) 44(-10.785,-2.5) 46(-9.515,-2.5) 48(-8.245,-2.5) 50(-6.975,-2.5) 52(-5.705,-2.5) 54(-4.435,-2.5) 56(-3.165,-2.5) 58(-1.895,-2.5) 60(-0.625,-2.5) 62(0.645,-2.5) 66(3.185,-2.5) 68(4.455,-2.5) 70(5.725,-2.5) 72(6.995,-2.5) 74(8.265,-2.5) 76(9.535,-2.5) 78(10.805,-2.5) 80(12.075,-2.5) 82(13.345,-2.5) 84(14.615,-2.5) 86(15.885,-2.5) 88(17.155,-2.5) 90(18.425,-2.5) 92(19.695,-2.5) 94(20.965,-2.5) 96(22.235,-2.5) 98(23.505,-2.5) 100(24.775,-2.5) 102(26.045,-2.5) 104(27.315,-2.5) 106(28.585,-2.5) 108(29.855,-2.5) 110(31.125,-2.5) 112(32.395,-2.5) 114(33.665,-2.5) 116(34.935,-2.5) 118(36.205,-2.5) 120(37.475,-2.5)
F.SilkS:
  lines w0.254: -39.09,-3.73 -37.82,-5 39.09,-5 39.09,5.11 -39.09,5.11 -39.09,-3.73
B.SilkS:
  lines w0.254: -39.09,-5 39.09,-5 39.09,5.11 -39.09,5.11 -39.09,-5
Top Assembly:
  lines w0.254: -38.975,-3.73 -37.705,-5 38.975,-5 38.975,5 -38.975,5 -38.975,-3.73
  text "'.Designator'" at -4.047,1.7 h1
Bottom Assembly:
  lines w0.254: -38.975,-5 38.975,-5 38.975,5 -38.975,5 -38.975,-5
Top Courtyard:
  lines w0.254: -39.22,-5 39.22,-5 39.22,5.25 -39.22,5.25 -39.22,-5
Bottom Courtyard:
  lines w0.254: -39.22,-5 39.22,-5 39.22,5.25 -39.22,5.25 -39.22,-5
Top Designator:
  text ".Designator" at -7.618,-0.383 h1.52
Board Shape:
  lines w0.254: -39.25,5 -38.975,5 -38.975,-5 -19.025,-5 -19.025,2 -17.785,2 -17.785,-5 1.295,-5 1.295,2 2.535,2 2.535,-5 38.975,-5 38.975,5 39.25,5

## Samtec_MECF-60-0_-NP-L-DV_2x60_P1.27mm_Edge [mm]
pads (120):
  rect 0.56x4 smd: 1(-37.455,-2.5) 3(-36.185,-2.5) 5(-34.915,-2.5) 7(-33.645,-2.5) 9(-32.375,-2.5) 11(-31.105,-2.5) 13(-29.835,-2.5) 15(-28.565,-2.5) 17(-27.295,-2.5) 19(-26.025,-2.5) 21(-24.755,-2.5) 23(-23.485,-2.5) 25(-22.215,-2.5) 27(-20.945,-2.5) 29(-19.675,-2.5) 31(-18.405,-2.5) 33(-17.135,-2.5) 35(-15.865,-2.5) 37(-14.595,-2.5) 39(-13.325,-2.5) 41(-12.055,-2.5) 43(-10.785,-2.5) 45(-9.515,-2.5) 47(-8.245,-2.5) 49(-6.975,-2.5) 51(-5.705,-2.5) 53(-4.435,-2.5) 55(-3.165,-2.5) 57(-1.895,-2.5) 59(-0.625,-2.5) 61(0.645,-2.5) 63(1.915,-2.5) 65(3.185,-2.5) 67(4.455,-2.5) 69(5.725,-2.5) 71(6.995,-2.5) 73(8.265,-2.5) 75(9.535,-2.5) 77(10.805,-2.5) 79(12.075,-2.5) 81(13.345,-2.5) 83(14.615,-2.5) 85(15.885,-2.5) 87(17.155,-2.5) 89(18.425,-2.5) 91(19.695,-2.5) 93(20.965,-2.5) 95(22.235,-2.5) 97(23.505,-2.5) 99(24.775,-2.5) 101(26.045,-2.5) 103(27.315,-2.5) 105(28.585,-2.5) 107(29.855,-2.5) 109(31.125,-2.5) 111(32.395,-2.5) 113(33.665,-2.5) 115(34.935,-2.5) 117(36.205,-2.5) 119(37.475,-2.5)
  rect 0.56x4 smd far side: 2(-37.455,-2.5) 4(-36.185,-2.5) 6(-34.915,-2.5) 8(-33.645,-2.5) 10(-32.375,-2.5) 12(-31.105,-2.5) 14(-29.835,-2.5) 16(-28.565,-2.5) 18(-27.295,-2.5) 20(-26.025,-2.5) 22(-24.755,-2.5) 24(-23.485,-2.5) 26(-22.215,-2.5) 28(-20.945,-2.5) 30(-19.675,-2.5) 32(-18.405,-2.5) 34(-17.135,-2.5) 36(-15.865,-2.5) 38(-14.595,-2.5) 40(-13.325,-2.5) 42(-12.055,-2.5) 44(-10.785,-2.5) 46(-9.515,-2.5) 48(-8.245,-2.5) 50(-6.975,-2.5) 52(-5.705,-2.5) 54(-4.435,-2.5) 56(-3.165,-2.5) 58(-1.895,-2.5) 60(-0.625,-2.5) 62(0.645,-2.5) 64(1.915,-2.5) 66(3.185,-2.5) 68(4.455,-2.5) 70(5.725,-2.5) 72(6.995,-2.5) 74(8.265,-2.5) 76(9.535,-2.5) 78(10.805,-2.5) 80(12.075,-2.5) 82(13.345,-2.5) 84(14.615,-2.5) 86(15.885,-2.5) 88(17.155,-2.5) 90(18.425,-2.5) 92(19.695,-2.5) 94(20.965,-2.5) 96(22.235,-2.5) 98(23.505,-2.5) 100(24.775,-2.5) 102(26.045,-2.5) 104(27.315,-2.5) 106(28.585,-2.5) 108(29.855,-2.5) 110(31.125,-2.5) 112(32.395,-2.5) 114(33.665,-2.5) 116(34.935,-2.5) 118(36.205,-2.5) 120(37.475,-2.5)
F.SilkS:
  lines w0.254: -39.09,-3.73 -37.82,-5 39.09,-5 39.09,5.11 -39.09,5.11 -39.09,-3.73
B.SilkS:
  lines w0.254: -39.09,-5 39.09,-5 39.09,5.11 -39.09,5.11 -39.09,-5
Top Assembly:
  lines w0.254: -38.975,-3.73 -37.705,-5 38.975,-5 38.975,5 -38.975,5 -38.975,-3.73
  text "'.Designator'" at -4.047,1.7 h1
Bottom Assembly:
  lines w0.254: -38.975,-5 38.975,-5 38.975,5 -38.975,5 -38.975,-5
Top Courtyard:
  lines w0.254: -39.22,-5 39.22,-5 39.22,5.25 -39.22,5.25 -39.22,-5
Bottom Courtyard:
  lines w0.254: -39.22,-5 39.22,-5 39.22,5.25 -39.22,5.25 -39.22,-5
Top Designator:
  text ".Designator" at -7.618,-0.383 h1.52
Board Shape:
  lines w0.254: -39.25,5 -38.975,5 -38.975,-5 38.975,-5 38.975,5 39.25,5